# EAGLE library part LPS25H (library Seeed-OPL-2017-01-Sensor-camilo)
314030006
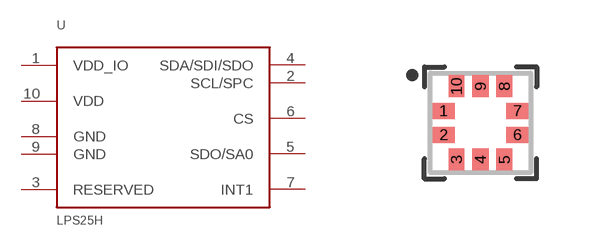
[diagram p4: symbol with the pads of LPS25H; footprint LPS25H]

Designator prefix U

## LPS25H  [LPS25H]
1  VDD_IO
2  SCL/SPC
3  RESERVED
4  SDA/SDI/SDO
5  SDO/SA0
6  CS
7  INT1
8  GND
9  GND
10  VDD

## Footprint LPS25H (pad centres in mm)
smd 0.55 x 0.4: 1 -0.92,0.3; 2 -0.92,-0.3; 6 0.92,-0.3; 7 0.92,0.3
smd 0.4 x 0.55: 3 -0.6,-0.92; 4 0,-0.92; 5 0.6,-0.92; 8 0.6,0.92; 9 0,0.92; 10 -0.6,0.92